# EAGLE library part SPARKFUN-GPS-ZED-F9P (library GlacTracker)
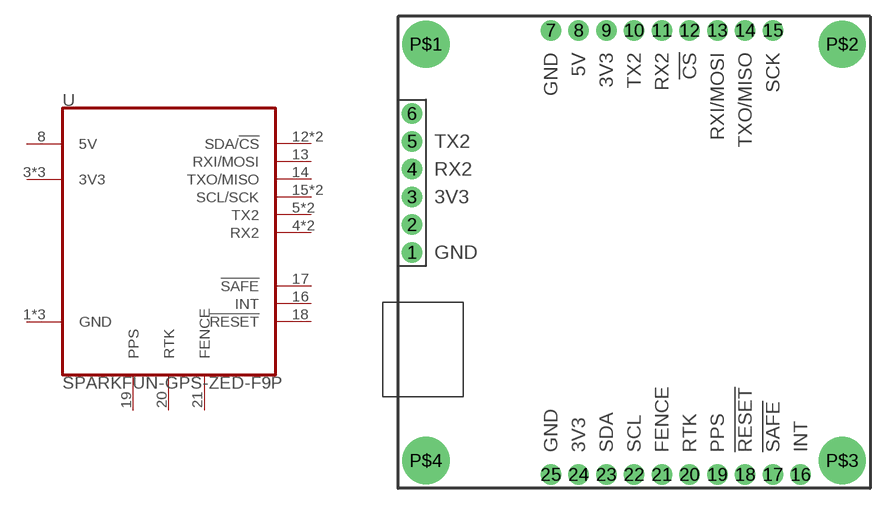
[diagram p4: symbol with the pads of SPARKFUN-GPS-ZED-F9P; footprint SPARKFUN-GPS-ZED-F9P]

Designator prefix U

## SPARKFUN-GPS-ZED-F9P  [SPARKFUN-GPS-ZED-F9P]
1  GND
3  3V3
4  RX2
5  TX2
7  GND
8  5V
9  3V3
10  TX2
11  RX2
12  SDA/!CS
13  RXI/MOSI
14  TXO/MISO
15  SCL/SCK
16  INT
17  !SAFE
18  !RESET
19  PPS
20  RTK
21  FENCE
22  SCL/SCK
23  SDA/!CS
24  3V3
25  GND

## Footprint SPARKFUN-GPS-ZED-F9P (pad centres in mm)
drill 1.016 pad 1.88: 1 1.27,21.59; 2 1.27,24.13; 3 1.27,26.67; 4 1.27,29.21; 5 1.27,31.75; 6 1.27,34.29; 7 13.97,41.91; 8 16.51,41.91; 9 19.05,41.91; 10 21.59,41.91; 11 24.13,41.91; 12 26.67,41.91; 13 29.21,41.91; 14 31.75,41.91; 15 34.29,41.91; 16 36.83,1.27; 17 34.29,1.27; 18 31.75,1.27; 19 29.21,1.27; 20 26.67,1.27; 21 24.13,1.27; 22 21.59,1.27; 23 19.05,1.27; 24 16.51,1.27; 25 13.97,1.27
drill 3.302: P$1 2.54,40.64; P$2 40.64,40.64; P$3 40.64,2.54; P$4 2.54,2.54